# Altium footprint library PQFP.PcbLib: 6 footprints
Each footprint in its own frame and in the unit in brackets; x right, y up, seen from the top. Pads: shape width x height; smd on the part's side, far side on the other; paste and mask are expansions set on the pad; w line width, h text height; cw(c..) or ccw(c..) is an arc to the next point about the centre after c.
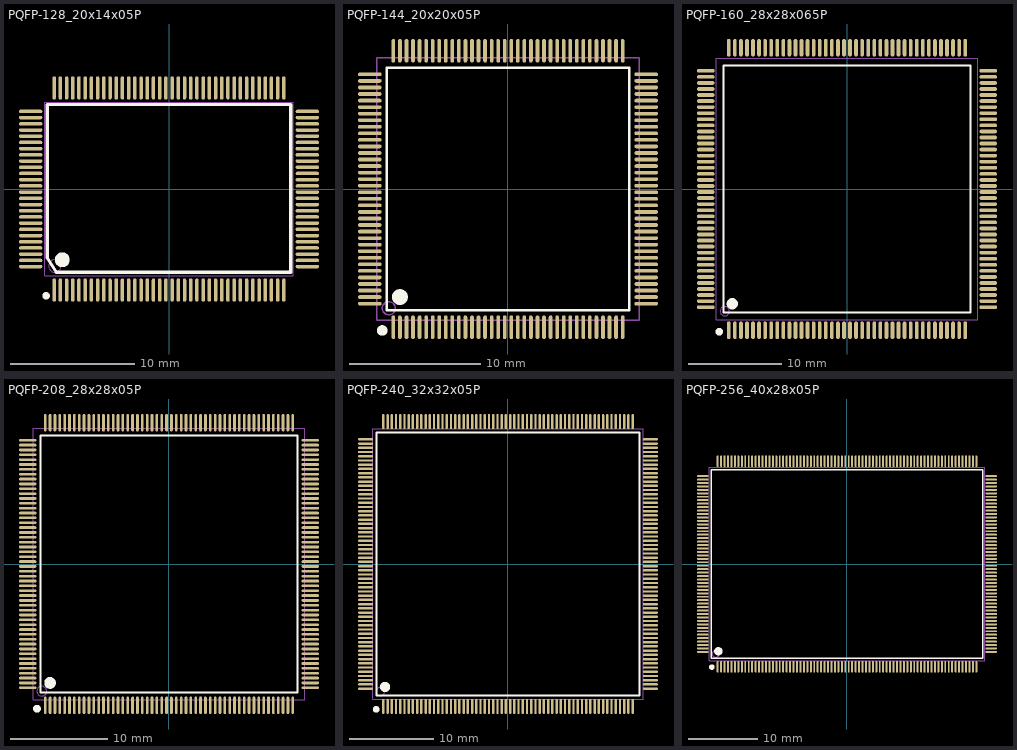
[diagram p0: the footprints below, top view; thin cyan lines are the x and y axes]

## PQFP-128_20x14x05P [mm]
pads (128):
  oval 0.28x1.88 smd mask+0.051: 1(-9.25,-8.14) 2(-8.75,-8.14) 3(-8.25,-8.14) 4(-7.75,-8.14) 5(-7.25,-8.14) 6(-6.75,-8.14) 7(-6.25,-8.14) 8(-5.75,-8.14) 9(-5.25,-8.14) 10(-4.75,-8.14) 11(-4.25,-8.14) 12(-3.75,-8.14) 13(-3.25,-8.14) 14(-2.75,-8.14) 15(-2.25,-8.14) 16(-1.75,-8.14) 17(-1.25,-8.14) 18(-0.75,-8.14) 19(-0.25,-8.14) 20(0.25,-8.14) 21(0.75,-8.14) 22(1.25,-8.14) 23(1.75,-8.14) 24(2.25,-8.14) 25(2.75,-8.14) 26(3.25,-8.14) 27(3.75,-8.14) 28(4.25,-8.14) 29(4.75,-8.14) 30(5.25,-8.14) 31(5.75,-8.14) 32(6.25,-8.14) 33(6.75,-8.14) 34(7.25,-8.14) 35(7.75,-8.14) 36(8.25,-8.14) 37(8.75,-8.14) 38(9.25,-8.14) 65(9.25,8.14) 66(8.75,8.14) 67(8.25,8.14) 68(7.75,8.14) 69(7.25,8.14) 70(6.75,8.14) 71(6.25,8.14) 72(5.75,8.14) 73(5.25,8.14) 74(4.75,8.14) 75(4.25,8.14) 76(3.75,8.14) 77(3.25,8.14) 78(2.75,8.14) 79(2.25,8.14) 80(1.75,8.14) 81(1.25,8.14) 82(0.75,8.14) 83(0.25,8.14) 84(-0.25,8.14) 85(-0.75,8.14) 86(-1.25,8.14) 87(-1.75,8.14) 88(-2.25,8.14) 89(-2.75,8.14) 90(-3.25,8.14) 91(-3.75,8.14) 92(-4.25,8.14) 93(-4.75,8.14) 94(-5.25,8.14) 95(-5.75,8.14) 96(-6.25,8.14) 97(-6.75,8.14) 98(-7.25,8.14) 99(-7.75,8.14) 100(-8.25,8.14) 101(-8.75,8.14) 102(-9.25,8.14)
  oval 1.88x0.28 smd mask+0.051: 39(11.14,-6.25) 40(11.14,-5.75) 41(11.14,-5.25) 42(11.14,-4.75) 43(11.14,-4.25) 44(11.14,-3.75) 45(11.14,-3.25) 46(11.14,-2.75) 47(11.14,-2.25) 48(11.14,-1.75) 49(11.14,-1.25) 50(11.14,-0.75) 51(11.14,-0.25) 52(11.14,0.25) 53(11.14,0.75) 54(11.14,1.25) 55(11.14,1.75) 56(11.14,2.25) 57(11.14,2.75) 58(11.14,3.25) 59(11.14,3.75) 60(11.14,4.25) 61(11.14,4.75) 62(11.14,5.25) 63(11.14,5.75) 64(11.14,6.25) 103(-11.14,6.25) 104(-11.14,5.75) 105(-11.14,5.25) 106(-11.14,4.75) 107(-11.14,4.25) 108(-11.14,3.75) 109(-11.14,3.25) 110(-11.14,2.75) 111(-11.14,2.25) 112(-11.14,1.75) 113(-11.14,1.25) 114(-11.14,0.75) 115(-11.14,0.25) 116(-11.14,-0.25) 117(-11.14,-0.75) 118(-11.14,-1.25) 119(-11.14,-1.75) 120(-11.14,-2.25) 121(-11.14,-2.75) 122(-11.14,-3.25) 123(-11.14,-3.75) 124(-11.14,-4.25) 125(-11.14,-4.75) 126(-11.14,-5.25) 127(-11.14,-5.75) 128(-11.14,-6.25)
Top Overlay:
  circle w0.6: c-8.6,-5.7 r0.3
  circle w0.3: c-9.9,-8.6 r0.15
  lines w0.254: -9.8,-5.56 -9.087,-6.7 9.8,-6.7 9.8,6.8 -9.8,6.8 -9.8,-5.56
Mechanical 13:
  circle w0.1: c-9.2,-6.2 r0.5
  lines w0.1: -10,-7 10,-7 10,7 -10,7 -10,-7

## PQFP-144_20x20x05P [mm]
pads (144):
  oval 0.28x1.8 smd mask+0.051: 1(-8.75,-10.55) 2(-8.25,-10.55) 3(-7.75,-10.55) 4(-7.25,-10.55) 5(-6.75,-10.55) 6(-6.25,-10.55) 7(-5.75,-10.55) 8(-5.25,-10.55) 9(-4.75,-10.55) 10(-4.25,-10.55) 11(-3.75,-10.55) 12(-3.25,-10.55) 13(-2.75,-10.55) 14(-2.25,-10.55) 15(-1.75,-10.55) 16(-1.25,-10.55) 17(-0.75,-10.55) 18(-0.25,-10.55) 19(0.25,-10.55) 20(0.75,-10.55) 21(1.25,-10.55) 22(1.75,-10.55) 23(2.25,-10.55) 24(2.75,-10.55) 25(3.25,-10.55) 26(3.75,-10.55) 27(4.25,-10.55) 28(4.75,-10.55) 29(5.25,-10.55) 30(5.75,-10.55) 31(6.25,-10.55) 32(6.75,-10.55) 33(7.25,-10.55) 34(7.75,-10.55) 35(8.25,-10.55) 36(8.75,-10.55) 73(8.75,10.55) 74(8.25,10.55) 75(7.75,10.55) 76(7.25,10.55) 77(6.75,10.55) 78(6.25,10.55) 79(5.75,10.55) 80(5.25,10.55) 81(4.75,10.55) 82(4.25,10.55) 83(3.75,10.55) 84(3.25,10.55) 85(2.75,10.55) 86(2.25,10.55) 87(1.75,10.55) 88(1.25,10.55) 89(0.75,10.55) 90(0.25,10.55) 91(-0.25,10.55) 92(-0.75,10.55) 93(-1.25,10.55) 94(-1.75,10.55) 95(-2.25,10.55) 96(-2.75,10.55) 97(-3.25,10.55) 98(-3.75,10.55) 99(-4.25,10.55) 100(-4.75,10.55) 101(-5.25,10.55) 102(-5.75,10.55) 103(-6.25,10.55) 104(-6.75,10.55) 105(-7.25,10.55) 106(-7.75,10.55) 107(-8.25,10.55) 108(-8.75,10.55)
  oval 1.8x0.28 smd mask+0.051: 37(10.55,-8.75) 38(10.55,-8.25) 39(10.55,-7.75) 40(10.55,-7.25) 41(10.55,-6.75) 42(10.55,-6.25) 43(10.55,-5.75) 44(10.55,-5.25) 45(10.55,-4.75) 46(10.55,-4.25) 47(10.55,-3.75) 48(10.55,-3.25) 49(10.55,-2.75) 50(10.55,-2.25) 51(10.55,-1.75) 52(10.55,-1.25) 53(10.55,-0.75) 54(10.55,-0.25) 55(10.55,0.25) 56(10.55,0.75) 57(10.55,1.25) 58(10.55,1.75) 59(10.55,2.25) 60(10.55,2.75) 61(10.55,3.25) 62(10.55,3.75) 63(10.55,4.25) 64(10.55,4.75) 65(10.55,5.25) 66(10.55,5.75) 67(10.55,6.25) 68(10.55,6.75) 69(10.55,7.25) 70(10.55,7.75) 71(10.55,8.25) 72(10.55,8.75) 109(-10.55,8.75) 110(-10.55,8.25) 111(-10.55,7.75) 112(-10.55,7.25) 113(-10.55,6.75) 114(-10.55,6.25) 115(-10.55,5.75) 116(-10.55,5.25) 117(-10.55,4.75) 118(-10.55,4.25) 119(-10.55,3.75) 120(-10.55,3.25) 121(-10.55,2.75) 122(-10.55,2.25) 123(-10.55,1.75) 124(-10.55,1.25) 125(-10.55,0.75) 126(-10.55,0.25) 127(-10.55,-0.25) 128(-10.55,-0.75) 129(-10.55,-1.25) 130(-10.55,-1.75) 131(-10.55,-2.25) 132(-10.55,-2.75) 133(-10.55,-3.25) 134(-10.55,-3.75) 135(-10.55,-4.25) 136(-10.55,-4.75) 137(-10.55,-5.25) 138(-10.55,-5.75) 139(-10.55,-6.25) 140(-10.55,-6.75) 141(-10.55,-7.25) 142(-10.55,-7.75) 143(-10.55,-8.25) 144(-10.55,-8.75)
Top Overlay:
  circle w0.4: c-9.6,-10.8 r0.2
  circle w0.6: c-8.25,-8.25 r0.3
  lines w0.2: -9.25,-9.25 9.25,-9.25 9.25,9.25 -9.25,9.25 -9.25,-9.25
Mechanical 13:
  circle w0.1: c-9.1,-9.1 r0.5
  lines w0.1: -10,-10 10,-10 10,10 -10,10 -10,-10

## PQFP-160_28x28x065P [mm]
pads (160):
  oval 0.4x1.88 smd mask+0.051: 1(-12.675,-15.14) 2(-12.025,-15.14) 3(-11.375,-15.14) 4(-10.725,-15.14) 5(-10.075,-15.14) 6(-9.425,-15.14) 7(-8.775,-15.14) 8(-8.125,-15.14) 9(-7.475,-15.14) 10(-6.825,-15.14) 11(-6.175,-15.14) 12(-5.525,-15.14) 13(-4.875,-15.14) 14(-4.225,-15.14) 15(-3.575,-15.14) 16(-2.925,-15.14) 17(-2.275,-15.14) 18(-1.625,-15.14) 19(-0.975,-15.14) 20(-0.325,-15.14) 21(0.325,-15.14) 22(0.975,-15.14) 23(1.625,-15.14) 24(2.275,-15.14) 25(2.925,-15.14) 26(3.575,-15.14) 27(4.225,-15.14) 28(4.875,-15.14) 29(5.525,-15.14) 30(6.175,-15.14) 31(6.825,-15.14) 32(7.475,-15.14) 33(8.125,-15.14) 34(8.775,-15.14) 35(9.425,-15.14) 36(10.075,-15.14) 37(10.725,-15.14) 38(11.375,-15.14) 39(12.025,-15.14) 40(12.675,-15.14) 81(12.675,15.14) 82(12.025,15.14) 83(11.375,15.14) 84(10.725,15.14) 85(10.075,15.14) 86(9.425,15.14) 87(8.775,15.14) 88(8.125,15.14) 89(7.475,15.14) 90(6.825,15.14) 91(6.175,15.14) 92(5.525,15.14) 93(4.875,15.14) 94(4.225,15.14) 95(3.575,15.14) 96(2.925,15.14) 97(2.275,15.14) 98(1.625,15.14) 99(0.975,15.14) 100(0.325,15.14) 101(-0.325,15.14) 102(-0.975,15.14) 103(-1.625,15.14) 104(-2.275,15.14) 105(-2.925,15.14) 106(-3.575,15.14) 107(-4.225,15.14) 108(-4.875,15.14) 109(-5.525,15.14) 110(-6.175,15.14) 111(-6.825,15.14) 112(-7.475,15.14) 113(-8.125,15.14) 114(-8.775,15.14) 115(-9.425,15.14) 116(-10.075,15.14) 117(-10.725,15.14) 118(-11.375,15.14) 119(-12.025,15.14) 120(-12.675,15.14)
  oval 1.88x0.4 smd mask+0.051: 41(15.14,-12.675) 42(15.14,-12.025) 43(15.14,-11.375) 44(15.14,-10.725) 45(15.14,-10.075) 46(15.14,-9.425) 47(15.14,-8.775) 48(15.14,-8.125) 49(15.14,-7.475) 50(15.14,-6.825) 51(15.14,-6.175) 52(15.14,-5.525) 53(15.14,-4.875) 54(15.14,-4.225) 55(15.14,-3.575) 56(15.14,-2.925) 57(15.14,-2.275) 58(15.14,-1.625) 59(15.14,-0.975) 60(15.14,-0.325) 61(15.14,0.325) 62(15.14,0.975) 63(15.14,1.625) 64(15.14,2.275) 65(15.14,2.925) 66(15.14,3.575) 67(15.14,4.225) 68(15.14,4.875) 69(15.14,5.525) 70(15.14,6.175) 71(15.14,6.825) 72(15.14,7.475) 73(15.14,8.125) 74(15.14,8.775) 75(15.14,9.425) 76(15.14,10.075) 77(15.14,10.725) 78(15.14,11.375) 79(15.14,12.025) 80(15.14,12.675) 121(-15.14,12.675) 122(-15.14,12.025) 123(-15.14,11.375) 124(-15.14,10.725) 125(-15.14,10.075) 126(-15.14,9.425) 127(-15.14,8.775) 128(-15.14,8.125) 129(-15.14,7.475) 130(-15.14,6.825) 131(-15.14,6.175) 132(-15.14,5.525) 133(-15.14,4.875) 134(-15.14,4.225) 135(-15.14,3.575) 136(-15.14,2.925) 137(-15.14,2.275) 138(-15.14,1.625) 139(-15.14,0.975) 140(-15.14,0.325) 141(-15.14,-0.325) 142(-15.14,-0.975) 143(-15.14,-1.625) 144(-15.14,-2.275) 145(-15.14,-2.925) 146(-15.14,-3.575) 147(-15.14,-4.225) 148(-15.14,-4.875) 149(-15.14,-5.525) 150(-15.14,-6.175) 151(-15.14,-6.825) 152(-15.14,-7.475) 153(-15.14,-8.125) 154(-15.14,-8.775) 155(-15.14,-9.425) 156(-15.14,-10.075) 157(-15.14,-10.725) 158(-15.14,-11.375) 159(-15.14,-12.025) 160(-15.14,-12.675)
Top Overlay:
  circle w0.4: c-13.7,-15.3 r0.2
  circle w0.6: c-12.3,-12.3 r0.3
  lines w0.2: -13.25,-13.25 13.25,-13.25 13.25,13.25 -13.25,13.25 -13.25,-13.25
Mechanical 13:
  circle w0.1: c-13.1,-13.1 r0.5
  lines w0.1: -14,-14 14,-14 14,14 -14,14 -14,-14

## PQFP-208_28x28x05P [mm]
pads (208):
  oval 0.28x1.8 smd mask+0.051: 1(-12.75,-14.55) 2(-12.25,-14.55) 3(-11.75,-14.55) 4(-11.25,-14.55) 5(-10.75,-14.55) 6(-10.25,-14.55) 7(-9.75,-14.55) 8(-9.25,-14.55) 9(-8.75,-14.55) 10(-8.25,-14.55) 11(-7.75,-14.55) 12(-7.25,-14.55) 13(-6.75,-14.55) 14(-6.25,-14.55) 15(-5.75,-14.55) 16(-5.25,-14.55) 17(-4.75,-14.55) 18(-4.25,-14.55) 19(-3.75,-14.55) 20(-3.25,-14.55) 21(-2.75,-14.55) 22(-2.25,-14.55) 23(-1.75,-14.55) 24(-1.25,-14.55) 25(-0.75,-14.55) 26(-0.25,-14.55) 27(0.25,-14.55) 28(0.75,-14.55) 29(1.25,-14.55) 30(1.75,-14.55) 31(2.25,-14.55) 32(2.75,-14.55) 33(3.25,-14.55) 34(3.75,-14.55) 35(4.25,-14.55) 36(4.75,-14.55) 37(5.25,-14.55) 38(5.75,-14.55) 39(6.25,-14.55) 40(6.75,-14.55) 41(7.25,-14.55) 42(7.75,-14.55) 43(8.25,-14.55) 44(8.75,-14.55) 45(9.25,-14.55) 46(9.75,-14.55) 47(10.25,-14.55) 48(10.75,-14.55) 49(11.25,-14.55) 50(11.75,-14.55) 51(12.25,-14.55) 52(12.75,-14.55) 105(12.75,14.55) 106(12.25,14.55) 107(11.75,14.55) 108(11.25,14.55) 109(10.75,14.55) 110(10.25,14.55) 111(9.75,14.55) 112(9.25,14.55) 113(8.75,14.55) 114(8.25,14.55) 115(7.75,14.55) 116(7.25,14.55) 117(6.75,14.55) 118(6.25,14.55) 119(5.75,14.55) 120(5.25,14.55) 121(4.75,14.55) 122(4.25,14.55) 123(3.75,14.55) 124(3.25,14.55) 125(2.75,14.55) 126(2.25,14.55) 127(1.75,14.55) 128(1.25,14.55) 129(0.75,14.55) 130(0.25,14.55) 131(-0.25,14.55) 132(-0.75,14.55) 133(-1.25,14.55) 134(-1.75,14.55) 135(-2.25,14.55) 136(-2.75,14.55) 137(-3.25,14.55) 138(-3.75,14.55) 139(-4.25,14.55) 140(-4.75,14.55) 141(-5.25,14.55) 142(-5.75,14.55) 143(-6.25,14.55) 144(-6.75,14.55) 145(-7.25,14.55) 146(-7.75,14.55) 147(-8.25,14.55) 148(-8.75,14.55) 149(-9.25,14.55) 150(-9.75,14.55) 151(-10.25,14.55) 152(-10.75,14.55) 153(-11.25,14.55) 154(-11.75,14.55) 155(-12.25,14.55) 156(-12.75,14.55)
  oval 1.8x0.28 smd mask+0.051: 53(14.55,-12.75) 54(14.55,-12.25) 55(14.55,-11.75) 56(14.55,-11.25) 57(14.55,-10.75) 58(14.55,-10.25) 59(14.55,-9.75) 60(14.55,-9.25) 61(14.55,-8.75) 62(14.55,-8.25) 63(14.55,-7.75) 64(14.55,-7.25) 65(14.55,-6.75) 66(14.55,-6.25) 67(14.55,-5.75) 68(14.55,-5.25) 69(14.55,-4.75) 70(14.55,-4.25) 71(14.55,-3.75) 72(14.55,-3.25) 73(14.55,-2.75) 74(14.55,-2.25) 75(14.55,-1.75) 76(14.55,-1.25) 77(14.55,-0.75) 78(14.55,-0.25) 79(14.55,0.25) 80(14.55,0.75) 81(14.55,1.25) 82(14.55,1.75) 83(14.55,2.25) 84(14.55,2.75) 85(14.55,3.25) 86(14.55,3.75) 87(14.55,4.25) 88(14.55,4.75) 89(14.55,5.25) 90(14.55,5.75) 91(14.55,6.25) 92(14.55,6.75) 93(14.55,7.25) 94(14.55,7.75) 95(14.55,8.25) 96(14.55,8.75) 97(14.55,9.25) 98(14.55,9.75) 99(14.55,10.25) 100(14.55,10.75) 101(14.55,11.25) 102(14.55,11.75) 103(14.55,12.25) 104(14.55,12.75) 157(-14.55,12.75) 158(-14.55,12.25) 159(-14.55,11.75) 160(-14.55,11.25) 161(-14.55,10.75) 162(-14.55,10.25) 163(-14.55,9.75) 164(-14.55,9.25) 165(-14.55,8.75) 166(-14.55,8.25) 167(-14.55,7.75) 168(-14.55,7.25) 169(-14.55,6.75) 170(-14.55,6.25) 171(-14.55,5.75) 172(-14.55,5.25) 173(-14.55,4.75) 174(-14.55,4.25) 175(-14.55,3.75) 176(-14.55,3.25) 177(-14.55,2.75) 178(-14.55,2.25) 179(-14.55,1.75) 180(-14.55,1.25) 181(-14.55,0.75) 182(-14.55,0.25) 183(-14.55,-0.25) 184(-14.55,-0.75) 185(-14.55,-1.25) 186(-14.55,-1.75) 187(-14.55,-2.25) 188(-14.55,-2.75) 189(-14.55,-3.25) 190(-14.55,-3.75) 191(-14.55,-4.25) 192(-14.55,-4.75) 193(-14.55,-5.25) 194(-14.55,-5.75) 195(-14.55,-6.25) 196(-14.55,-6.75) 197(-14.55,-7.25) 198(-14.55,-7.75) 199(-14.55,-8.25) 200(-14.55,-8.75) 201(-14.55,-9.25) 202(-14.55,-9.75) 203(-14.55,-10.25) 204(-14.55,-10.75) 205(-14.55,-11.25) 206(-14.55,-11.75) 207(-14.55,-12.25) 208(-14.55,-12.75)
Top Overlay:
  circle w0.4: c-13.6,-14.9 r0.2
  circle w0.6: c-12.25,-12.25 r0.3
  lines w0.2: -13.25,-13.25 -13.25,13.25 13.25,13.25 13.25,-13.25 -13.25,-13.25
Mechanical 13:
  circle w0.1: c-13.1,-13.1 r0.5
  lines w0.1: -14,-14 -14,14 14,14 14,-14 -14,-14

## PQFP-240_32x32x05P [mm]
pads (240):
  oval 0.28x1.8 smd mask+0.051: 1(-14.75,-16.85) 2(-14.25,-16.85) 3(-13.75,-16.85) 4(-13.25,-16.85) 5(-12.75,-16.85) 6(-12.25,-16.85) 7(-11.75,-16.85) 8(-11.25,-16.85) 9(-10.75,-16.85) 10(-10.25,-16.85) 11(-9.75,-16.85) 12(-9.25,-16.85) 13(-8.75,-16.85) 14(-8.25,-16.85) 15(-7.75,-16.85) 16(-7.25,-16.85) 17(-6.75,-16.85) 18(-6.25,-16.85) 19(-5.75,-16.85) 20(-5.25,-16.85) 21(-4.75,-16.85) 22(-4.25,-16.85) 23(-3.75,-16.85) 24(-3.25,-16.85) 25(-2.75,-16.85) 26(-2.25,-16.85) 27(-1.75,-16.85) 28(-1.25,-16.85) 29(-0.75,-16.85) 30(-0.25,-16.85) 31(0.25,-16.85) 32(0.75,-16.85) 33(1.25,-16.85) 34(1.75,-16.85) 35(2.25,-16.85) 36(2.75,-16.85) 37(3.25,-16.85) 38(3.75,-16.85) 39(4.25,-16.85) 40(4.75,-16.85) 41(5.25,-16.85) 42(5.75,-16.85) 43(6.25,-16.85) 44(6.75,-16.85) 45(7.25,-16.85) 46(7.75,-16.85) 47(8.25,-16.85) 48(8.75,-16.85) 49(9.25,-16.85) 50(9.75,-16.85) 51(10.25,-16.85) 52(10.75,-16.85) 53(11.25,-16.85) 54(11.75,-16.85) 55(12.25,-16.85) 56(12.75,-16.85) 57(13.25,-16.85) 58(13.75,-16.85) 59(14.25,-16.85) 60(14.75,-16.85) 121(14.75,16.85) 122(14.25,16.85) 123(13.75,16.85) 124(13.25,16.85) 125(12.75,16.85) 126(12.25,16.85) 127(11.75,16.85) 128(11.25,16.85) 129(10.75,16.85) 130(10.25,16.85) 131(9.75,16.85) 132(9.25,16.85) 133(8.75,16.85) 134(8.25,16.85) 135(7.75,16.85) 136(7.25,16.85) 137(6.75,16.85) 138(6.25,16.85) 139(5.75,16.85) 140(5.25,16.85) 141(4.75,16.85) 142(4.25,16.85) 143(3.75,16.85) 144(3.25,16.85) 145(2.75,16.85) 146(2.25,16.85) 147(1.75,16.85) 148(1.25,16.85) 149(0.75,16.85) 150(0.25,16.85) 151(-0.25,16.85) 152(-0.75,16.85) 153(-1.25,16.85) 154(-1.75,16.85) 155(-2.25,16.85) 156(-2.75,16.85) 157(-3.25,16.85) 158(-3.75,16.85) 159(-4.25,16.85) 160(-4.75,16.85) 161(-5.25,16.85) 162(-5.75,16.85) 163(-6.25,16.85) 164(-6.75,16.85) 165(-7.25,16.85) 166(-7.75,16.85) 167(-8.25,16.85) 168(-8.75,16.85) 169(-9.25,16.85) 170(-9.75,16.85) 171(-10.25,16.85) 172(-10.75,16.85) 173(-11.25,16.85) 174(-11.75,16.85) 175(-12.25,16.85) 176(-12.75,16.85) 177(-13.25,16.85) 178(-13.75,16.85) 179(-14.25,16.85) 180(-14.75,16.85)
  oval 1.8x0.28 smd mask+0.051: 61(16.85,-14.75) 62(16.85,-14.25) 63(16.85,-13.75) 64(16.85,-13.25) 65(16.85,-12.75) 66(16.85,-12.25) 67(16.85,-11.75) 68(16.85,-11.25) 69(16.85,-10.75) 70(16.85,-10.25) 71(16.85,-9.75) 72(16.85,-9.25) 73(16.85,-8.75) 74(16.85,-8.25) 75(16.85,-7.75) 76(16.85,-7.25) 77(16.85,-6.75) 78(16.85,-6.25) 79(16.85,-5.75) 80(16.85,-5.25) 81(16.85,-4.75) 82(16.85,-4.25) 83(16.85,-3.75) 84(16.85,-3.25) 85(16.85,-2.75) 86(16.85,-2.25) 87(16.85,-1.75) 88(16.85,-1.25) 89(16.85,-0.75) 90(16.85,-0.25) 91(16.85,0.25) 92(16.85,0.75) 93(16.85,1.25) 94(16.85,1.75) 95(16.85,2.25) 96(16.85,2.75) 97(16.85,3.25) 98(16.85,3.75) 99(16.85,4.25) 100(16.85,4.75) 101(16.85,5.25) 102(16.85,5.75) 103(16.85,6.25) 104(16.85,6.75) 105(16.85,7.25) 106(16.85,7.75) 107(16.85,8.25) 108(16.85,8.75) 109(16.85,9.25) 110(16.85,9.75) 111(16.85,10.25) 112(16.85,10.75) 113(16.85,11.25) 114(16.85,11.75) 115(16.85,12.25) 116(16.85,12.75) 117(16.85,13.25) 118(16.85,13.75) 119(16.85,14.25) 120(16.85,14.75) 181(-16.85,14.75) 182(-16.85,14.25) 183(-16.85,13.75) 184(-16.85,13.25) 185(-16.85,12.75) 186(-16.85,12.25) 187(-16.85,11.75) 188(-16.85,11.25) 189(-16.85,10.75) 190(-16.85,10.25) 191(-16.85,9.75) 192(-16.85,9.25) 193(-16.85,8.75) 194(-16.85,8.25) 195(-16.85,7.75) 196(-16.85,7.25) 197(-16.85,6.75) 198(-16.85,6.25) 199(-16.85,5.75) 200(-16.85,5.25) 201(-16.85,4.75) 202(-16.85,4.25) 203(-16.85,3.75) 204(-16.85,3.25) 205(-16.85,2.75) 206(-16.85,2.25) 207(-16.85,1.75) 208(-16.85,1.25) 209(-16.85,0.75) 210(-16.85,0.25) 211(-16.85,-0.25) 212(-16.85,-0.75) 213(-16.85,-1.25) 214(-16.85,-1.75) 215(-16.85,-2.25) 216(-16.85,-2.75) 217(-16.85,-3.25) 218(-16.85,-3.75) 219(-16.85,-4.25) 220(-16.85,-4.75) 221(-16.85,-5.25) 222(-16.85,-5.75) 223(-16.85,-6.25) 224(-16.85,-6.75) 225(-16.85,-7.25) 226(-16.85,-7.75) 227(-16.85,-8.25) 228(-16.85,-8.75) 229(-16.85,-9.25) 230(-16.85,-9.75) 231(-16.85,-10.25) 232(-16.85,-10.75) 233(-16.85,-11.25) 234(-16.85,-11.75) 235(-16.85,-12.25) 236(-16.85,-12.75) 237(-16.85,-13.25) 238(-16.85,-13.75) 239(-16.85,-14.25) 240(-16.85,-14.75)
Top Overlay:
  circle w0.4: c-15.6,-17.2 r0.2
  circle w0.6: c-14.55,-14.55 r0.3
  lines w0.2: -15.55,-15.55 15.55,-15.55 15.55,15.55 -15.55,15.55 -15.55,-15.55
Mechanical 13:
  circle w0.1: c-15.1,-15.1 r0.5
  lines w0.1: -16,-16 16,-16 16,16 -16,16 -16,-16

## PQFP-256_40x28x05P [mm] "Shrink QFP, 256-Leads, Body 40x28 mm, Pitch 0.5mm, IPC Medium Density"
pads (256):
  oval 0.28x1.7 smd mask+0.051: 1(-18.75,-14.9) 2(-18.25,-14.9) 3(-17.75,-14.9) 4(-17.25,-14.9) 5(-16.75,-14.9) 6(-16.25,-14.9) 7(-15.75,-14.9) 8(-15.25,-14.9) 9(-14.75,-14.9) 10(-14.25,-14.9) 11(-13.75,-14.9) 12(-13.25,-14.9) 13(-12.75,-14.9) 14(-12.25,-14.9) 15(-11.75,-14.9) 16(-11.25,-14.9) 17(-10.75,-14.9) 18(-10.25,-14.9) 19(-9.75,-14.9) 20(-9.25,-14.9) 21(-8.75,-14.9) 22(-8.25,-14.9) 23(-7.75,-14.9) 24(-7.25,-14.9) 25(-6.75,-14.9) 26(-6.25,-14.9) 27(-5.75,-14.9) 28(-5.25,-14.9) 29(-4.75,-14.9) 30(-4.25,-14.9) 31(-3.75,-14.9) 32(-3.25,-14.9) 33(-2.75,-14.9) 34(-2.25,-14.9) 35(-1.75,-14.9) 36(-1.25,-14.9) 37(-0.75,-14.9) 38(-0.25,-14.9) 39(0.25,-14.9) 40(0.75,-14.9) 41(1.25,-14.9) 42(1.75,-14.9) 43(2.25,-14.9) 44(2.75,-14.9) 45(3.25,-14.9) 46(3.75,-14.9) 47(4.25,-14.9) 48(4.75,-14.9) 49(5.25,-14.9) 50(5.75,-14.9) 51(6.25,-14.9) 52(6.75,-14.9) 53(7.25,-14.9) 54(7.75,-14.9) 55(8.25,-14.9) 56(8.75,-14.9) 57(9.25,-14.9) 58(9.75,-14.9) 59(10.25,-14.9) 60(10.75,-14.9) 61(11.25,-14.9) 62(11.75,-14.9) 63(12.25,-14.9) 64(12.75,-14.9) 65(13.25,-14.9) 66(13.75,-14.9) 67(14.25,-14.9) 68(14.75,-14.9) 69(15.25,-14.9) 70(15.75,-14.9) 71(16.25,-14.9) 72(16.75,-14.9) 73(17.25,-14.9) 74(17.75,-14.9) 75(18.25,-14.9) 76(18.75,-14.9) 129(18.75,14.9) 130(18.25,14.9) 131(17.75,14.9) 132(17.25,14.9) 133(16.75,14.9) 134(16.25,14.9) 135(15.75,14.9) 136(15.25,14.9) 137(14.75,14.9) 138(14.25,14.9) 139(13.75,14.9) 140(13.25,14.9) 141(12.75,14.9) 142(12.25,14.9) 143(11.75,14.9) 144(11.25,14.9) 145(10.75,14.9) 146(10.25,14.9) 147(9.75,14.9) 148(9.25,14.9) 149(8.75,14.9) 150(8.25,14.9) 151(7.75,14.9) 152(7.25,14.9) 153(6.75,14.9) 154(6.25,14.9) 155(5.75,14.9) 156(5.25,14.9) 157(4.75,14.9) 158(4.25,14.9) 159(3.75,14.9) 160(3.25,14.9) 161(2.75,14.9) 162(2.25,14.9) 163(1.75,14.9) 164(1.25,14.9) 165(0.75,14.9) 166(0.25,14.9) 167(-0.25,14.9) 168(-0.75,14.9) 169(-1.25,14.9) 170(-1.75,14.9) 171(-2.25,14.9) 172(-2.75,14.9) 173(-3.25,14.9) 174(-3.75,14.9) 175(-4.25,14.9) 176(-4.75,14.9) 177(-5.25,14.9) 178(-5.75,14.9) 179(-6.25,14.9) 180(-6.75,14.9) 181(-7.25,14.9) 182(-7.75,14.9) 183(-8.25,14.9) 184(-8.75,14.9) 185(-9.25,14.9) 186(-9.75,14.9) 187(-10.25,14.9) 188(-10.75,14.9) 189(-11.25,14.9) 190(-11.75,14.9) 191(-12.25,14.9) 192(-12.75,14.9) 193(-13.25,14.9) 194(-13.75,14.9) 195(-14.25,14.9) 196(-14.75,14.9) 197(-15.25,14.9) 198(-15.75,14.9) 199(-16.25,14.9) 200(-16.75,14.9) 201(-17.25,14.9) 202(-17.75,14.9) 203(-18.25,14.9) 204(-18.75,14.9)
  oval 1.7x0.28 smd mask+0.051: 77(20.9,-12.75) 78(20.9,-12.25) 79(20.9,-11.75) 80(20.9,-11.25) 81(20.9,-10.75) 82(20.9,-10.25) 83(20.9,-9.75) 84(20.9,-9.25) 85(20.9,-8.75) 86(20.9,-8.25) 87(20.9,-7.75) 88(20.9,-7.25) 89(20.9,-6.75) 90(20.9,-6.25) 91(20.9,-5.75) 92(20.9,-5.25) 93(20.9,-4.75) 94(20.9,-4.25) 95(20.9,-3.75) 96(20.9,-3.25) 97(20.9,-2.75) 98(20.9,-2.25) 99(20.9,-1.75) 100(20.9,-1.25) 101(20.9,-0.75) 102(20.9,-0.25) 103(20.9,0.25) 104(20.9,0.75) 105(20.9,1.25) 106(20.9,1.75) 107(20.9,2.25) 108(20.9,2.75) 109(20.9,3.25) 110(20.9,3.75) 111(20.9,4.25) 112(20.9,4.75) 113(20.9,5.25) 114(20.9,5.75) 115(20.9,6.25) 116(20.9,6.75) 117(20.9,7.25) 118(20.9,7.75) 119(20.9,8.25) 120(20.9,8.75) 121(20.9,9.25) 122(20.9,9.75) 123(20.9,10.25) 124(20.9,10.75) 125(20.9,11.25) 126(20.9,11.75) 127(20.9,12.25) 128(20.9,12.75) 205(-20.9,12.75) 206(-20.9,12.25) 207(-20.9,11.75) 208(-20.9,11.25) 209(-20.9,10.75) 210(-20.9,10.25) 211(-20.9,9.75) 212(-20.9,9.25) 213(-20.9,8.75) 214(-20.9,8.25) 215(-20.9,7.75) 216(-20.9,7.25) 217(-20.9,6.75) 218(-20.9,6.25) 219(-20.9,5.75) 220(-20.9,5.25) 221(-20.9,4.75) 222(-20.9,4.25) 223(-20.9,3.75) 224(-20.9,3.25) 225(-20.9,2.75) 226(-20.9,2.25) 227(-20.9,1.75) 228(-20.9,1.25) 229(-20.9,0.75) 230(-20.9,0.25) 231(-20.9,-0.25) 232(-20.9,-0.75) 233(-20.9,-1.25) 234(-20.9,-1.75) 235(-20.9,-2.25) 236(-20.9,-2.75) 237(-20.9,-3.25) 238(-20.9,-3.75) 239(-20.9,-4.25) 240(-20.9,-4.75) 241(-20.9,-5.25) 242(-20.9,-5.75) 243(-20.9,-6.25) 244(-20.9,-6.75) 245(-20.9,-7.25) 246(-20.9,-7.75) 247(-20.9,-8.25) 248(-20.9,-8.75) 249(-20.9,-9.25) 250(-20.9,-9.75) 251(-20.9,-10.25) 252(-20.9,-10.75) 253(-20.9,-11.25) 254(-20.9,-11.75) 255(-20.9,-12.25) 256(-20.9,-12.75)
Top Overlay:
  circle w0.6: c-18.65,-12.65 r0.3
  circle w0.4: c-19.6,-14.95 r0.2
  lines w0.2: -19.65,-13.65 -19.65,13.65 19.65,13.65 19.65,-13.65 -19.65,-13.65
Mechanical 13:
  circle w0.1: c-19.05,-13.05 r0.5
  lines w0.1: -20,-14 -20,14 20,14 20,-14 -20,-14